# Altium integrated library Resistors 2010.IntLib: 1 symbol
Pins are listed as number, name and electrical type; pins without a type are passive.

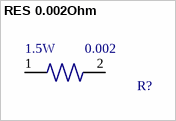
[diagram p0: symbol RES 0.002Ohm]

## RES 0.002Ohm
designator R?, comment Resistence: 0.002  Power: 1.5W  (hidden comment: RES 2010)
2 mOhms ±1% 1.5W Chip Resistor 2010 (5025 Metric) Current Sense, Moisture Resistant Metal Foil; Manufacturer 1: Stackpole Electronics Inc.; Manufacturer 1 PN: CSNL2010FT2L00
footprint RES 0.002 OHM 1% 1.5W 2010 (2 mOhms ±1% 1.5W Chip Resistor 2010 (5025 Metric) Current Sense, Moisture Resistant Metal Foil)
pins: 1, 2